# Altium footprint library SOP-4_4.4x2.6mm_P1.27mm.PcbLib: 1 footprints
Each footprint in its own frame and in the unit in brackets; x right, y up, seen from the top. Pads: shape width x height; smd on the part's side, far side on the other; paste and mask are expansions set on the pad; w line width, h text height; cw(c..) or ccw(c..) is an arc to the next point about the centre after c.
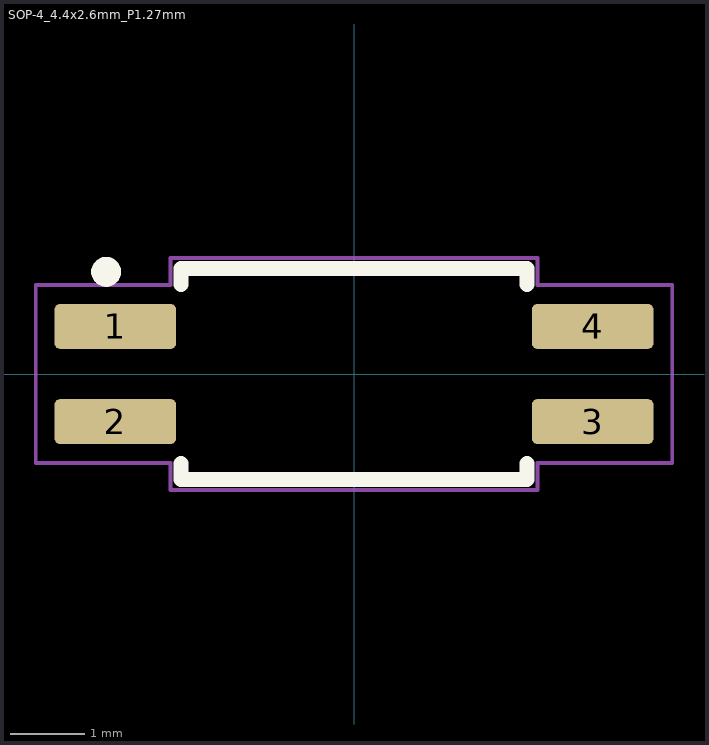
[diagram p0: the footprint, top view; thin cyan lines are the x and y axes]

## SOP-4_4.4x2.6mm_P1.27mm [mm]
pads (4):
  rrect25% 1.625x0.6 smd: 1(-3.187,0.635) 2(-3.187,-0.635) 3(3.187,-0.635) 4(3.187,0.635)
F.SilkS:
  circle w0.2: c-3.31,1.365 r0.1
  lines w0.2: -2.31,-1.195 -2.31,-1.41 2.31,-1.41 2.31,-1.195 ; -2.31,1.195 -2.31,1.41 2.31,1.41 2.31,1.195
F.CrtYd:
  lines w0.05: -4.25,-1.19 -4.25,1.19 -2.45,1.19 -2.45,1.55 2.45,1.55 2.45,1.19 4.25,1.19 4.25,-1.19 2.45,-1.19 2.45,-1.55 -2.45,-1.55 -2.45,-1.19 -4.25,-1.19
3D body "SOP-4.STEP": height 2.11, standoff 0.01, extent -3.5,-1.3 3.5,1.3